# EAGLE library part EFR32MG12P433F1024GM48 (library EFM32)
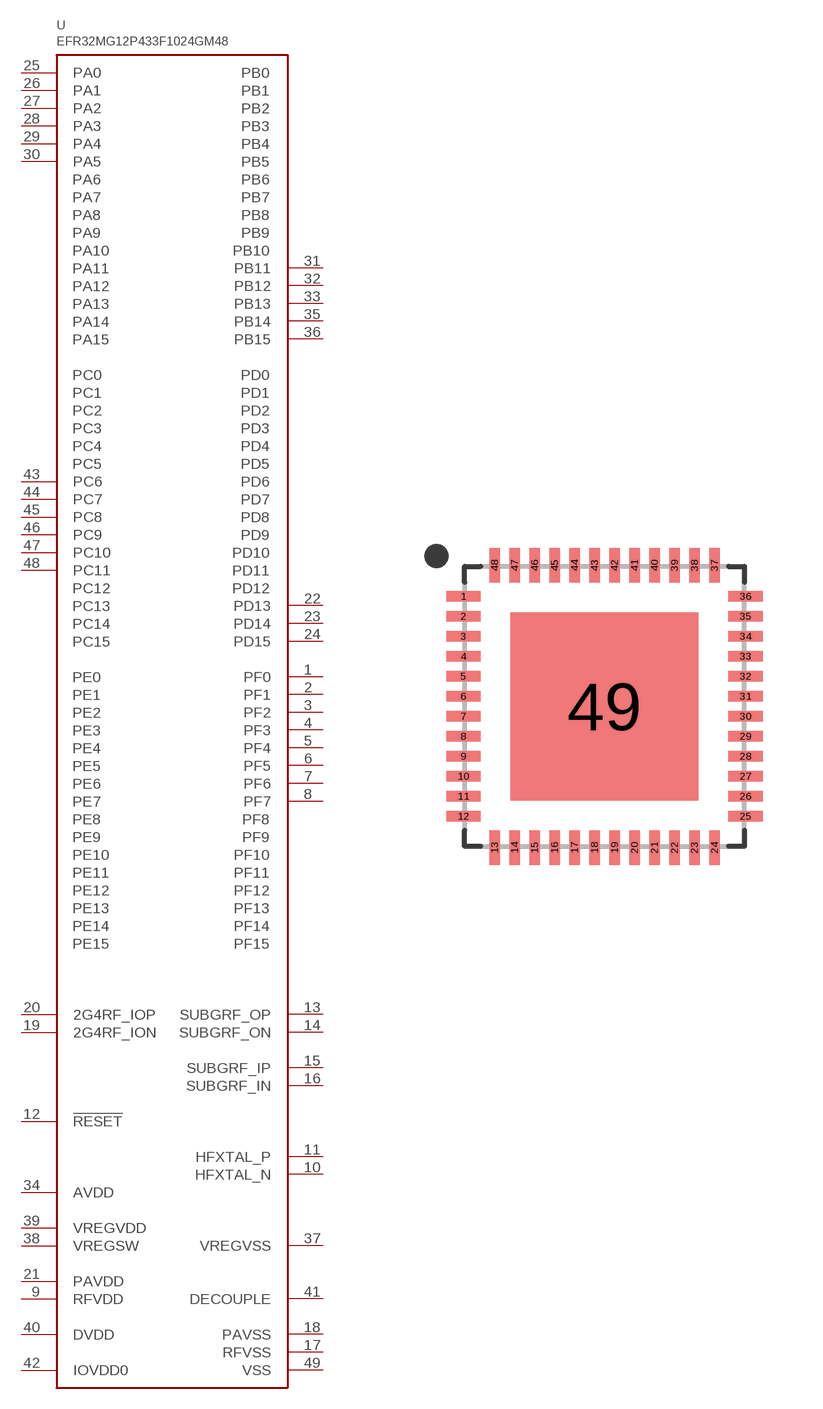
[diagram p16: symbol with the pads of QFN48; footprint QFN48]

Designator prefix U

## EFR32MG12P433F1024GM48  [QFN48]
1  PF0
2  PF1
3  PF2
4  PF3
5  PF4
6  PF5
7  PF6
8  PF7
9  RFVDD
10  HFXTAL_N
11  HFXTAL_P
12  !RESET
13  SUBGRF_OP
14  SUBGRF_ON
15  SUBGRF_IP
16  SUBGRF_IN
17  RFVSS
18  PAVSS
19  2G4RF_ION
20  2G4RF_IOP
21  PAVDD
22  PD13
23  PD14
24  PD15
25  PA0
26  PA1
27  PA2
28  PA3
29  PA4
30  PA5
31  PB11
32  PB12
33  PB13
34  AVDD
35  PB14
36  PB15
37  VREGVSS
38  VREGSW
39  VREGVDD
40  DVDD
41  DECOUPLE
42  IOVDD0
43  PC6
44  PC7
45  PC8
46  PC9
47  PC10
48  PC11
49  VSS

## Footprint QFN48 (pad centres in mm)
smd 0.86 x 0.26: 1 -3.53,2.75; 2 -3.53,2.25; 3 -3.53,1.75; 4 -3.53,1.25; 5 -3.53,0.75; 6 -3.53,0.25; 7 -3.53,-0.25; 8 -3.53,-0.75; 9 -3.53,-1.25; 10 -3.53,-1.75; 11 -3.53,-2.25; 12 -3.53,-2.75; 25 3.53,-2.75; 26 3.53,-2.25; 27 3.53,-1.75; 28 3.53,-1.25; 29 3.53,-0.75; 30 3.53,-0.25; 31 3.53,0.25; 32 3.53,0.75; 33 3.53,1.25; 34 3.53,1.75; 35 3.53,2.25; 36 3.53,2.75
smd 0.26 x 0.86: 13 -2.75,-3.53; 14 -2.25,-3.53; 15 -1.75,-3.53; 16 -1.25,-3.53; 17 -0.75,-3.53; 18 -0.25,-3.53; 19 0.25,-3.53; 20 0.75,-3.53; 21 1.25,-3.53; 22 1.75,-3.53; 23 2.25,-3.53; 24 2.75,-3.53; 37 2.75,3.53; 38 2.25,3.53; 39 1.75,3.53; 40 1.25,3.53; 41 0.75,3.53; 42 0.25,3.53; 43 -0.25,3.53; 44 -0.75,3.53; 45 -1.25,3.53; 46 -1.75,3.53; 47 -2.25,3.53; 48 -2.75,3.53
smd 4.7 x 4.7: 49 0,0